# Altium footprint library PM1608.PcbLib: 1 footprints
Each footprint in its own frame and in the unit in brackets; x right, y up, seen from the top. Pads: shape width x height; smd on the part's side, far side on the other; paste and mask are expansions set on the pad; w line width, h text height; cw(c..) or ccw(c..) is an arc to the next point about the centre after c.
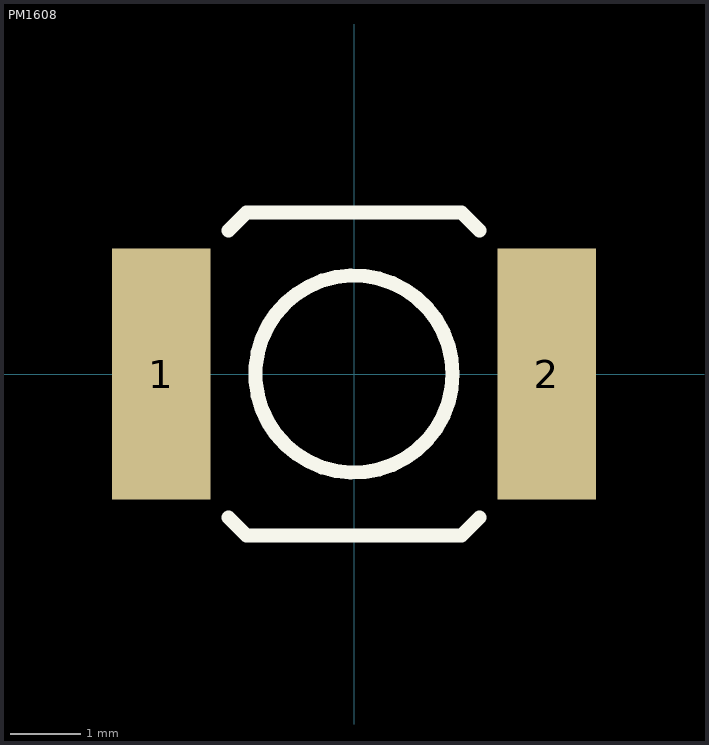
[diagram p0: the footprint, top view; thin cyan lines are the x and y axes]

## PM1608 [mil]
height 115
pads (2):
  rect 55x140 smd: 1(-107.5,0) 2(107.5,0)
Top Overlay:
  circle w7.87: c0,0 r55
  lines w7.87: -70,-80 -60,-90 60,-90 70,-80 ; -70,80 -60,90 60,90 70,80
3D body: height 114.96, standoff -0.2, extent -129.92,-88 129.92,87.2